# EAGLE library part ADXL345 (library DorMouse)
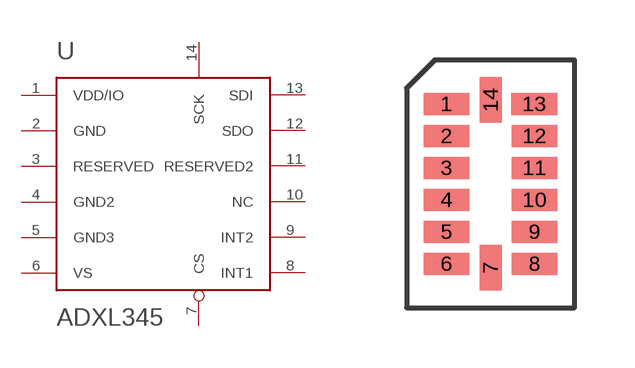
[diagram p1: symbol with the pads of LGA-14; footprint LGA-14]

Designator prefix -

## ADXL345  [LGA-14]
1  VDD/IO
2  GND
3  RESERVED
4  GND2
5  GND3
6  VS
7  CS
8  INT1
9  INT2
10  NC
11  RESERVED2
12  SDO
13  SDI
14  SCK

## Footprint LGA-14 (pad centres in mm)
smd 1.145 x 0.55: 1 -1.2,1.1; 2 -1.2,0.3; 3 -1.2,-0.5; 4 -1.2,-1.3; 5 -1.2,-2.1; 6 -1.2,-2.9; 8 1,-2.9; 9 1,-2.1; 10 1,-1.3; 11 1,-0.5; 12 1,0.3; 13 0.995,1.1
smd 0.55 x 1.145: 7 -0.1,-3; 14 -0.1,1.2